# Altium footprint library Chip_Resistor_L.PcbLib: 13 footprints
Each footprint in its own frame and in the unit in brackets; x right, y up, seen from the top. Pads: shape width x height; smd on the part's side, far side on the other; paste and mask are expansions set on the pad; w line width, h text height; cw(c..) or ccw(c..) is an arc to the next point about the centre after c.
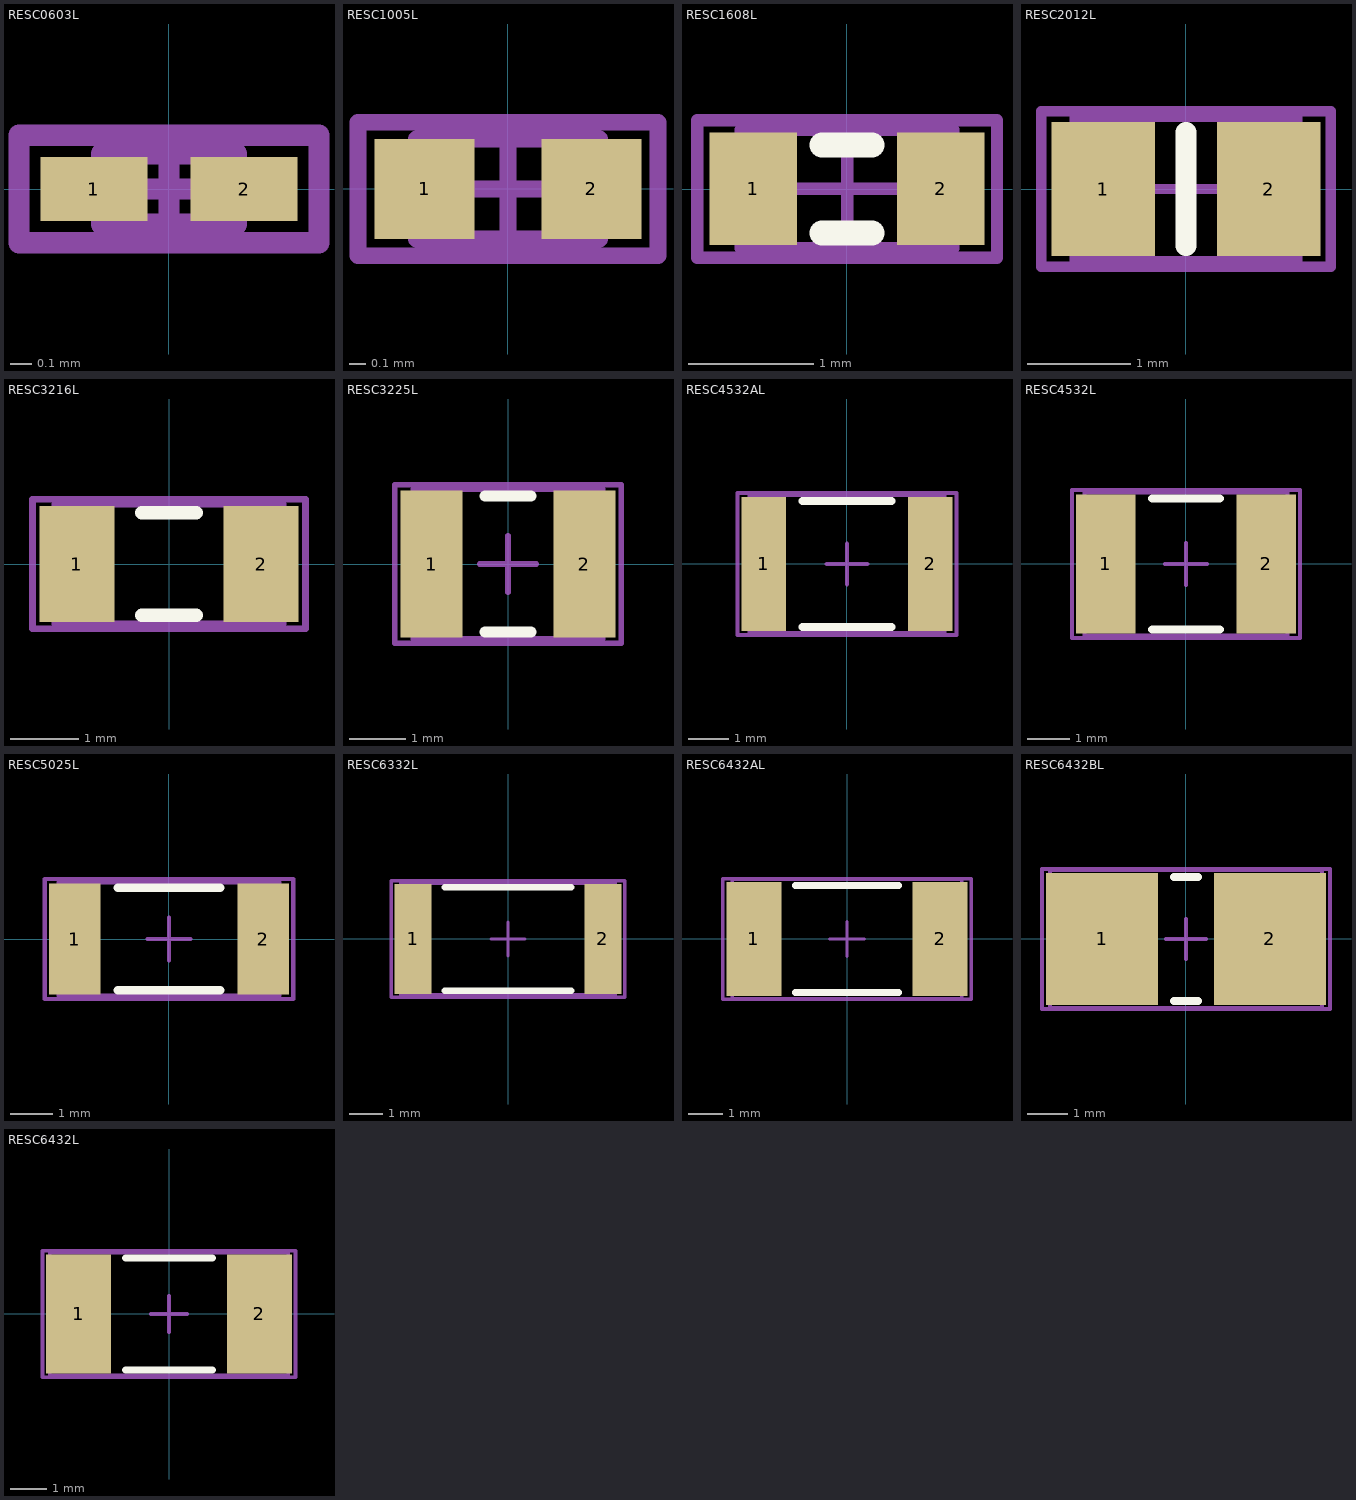
[diagram p0: the footprints below, top view; thin cyan lines are the x and y axes]

## RESC0603L [mm] "Chip Resistor, Body 0.6x0.3mm, IPC High Density"
height 0.3
pads (2):
  rect 0.5x0.3 smd: 1(-0.35,0) 2(0.35,0)
Mechanical 13:
  lines w0.1: -0.315,-0.165 -0.315,0.165 0.315,0.165 0.315,-0.165 -0.315,-0.165
Mechanical 15:
  lines w0.1: -0.165,0 0.165,0 ; 0,-0.165 0,0.165 ; -0.7,-0.25 -0.7,0.25 0.7,0.25 0.7,-0.25 -0.7,-0.25
3D body: height 0.3, standoff 0, extent -0.315,-0.165 0.315,0.165

## RESC1005L [mm] "Chip Resistor, Body 1.1x0.5mm, IPC High Density"
height 0.4
pads (2):
  rect 0.6x0.6 smd: 1(-0.5,0) 2(0.5,0)
Mechanical 13:
  lines w0.1: -0.55,-0.3 0.55,-0.3 0.55,0.3 -0.55,0.3 -0.55,-0.3
Mechanical 15:
  lines w0.1: -0.3,0 0.3,0 ; 0,-0.3 0,0.3 ; -0.9,-0.4 0.9,-0.4 0.9,0.4 -0.9,0.4 -0.9,-0.4
3D body: height 0.4, standoff 0, extent -0.55,-0.3 0.55,0.3

## RESC1608L [mm] "Chip Resistor, Body 1.6x0.8mm, IPC High Density"
height 0.6
pads (2):
  rect 0.7x0.9 smd: 1(-0.75,0) 2(0.75,0)
Top Overlay:
  lines w0.2: -0.2,-0.35 0.2,-0.35 ; -0.2,0.35 0.2,0.35
Mechanical 13:
  lines w0.1: -0.85,-0.475 0.85,-0.475 0.85,0.475 -0.85,0.475 -0.85,-0.475
Mechanical 15:
  lines w0.1: -0.475,0 0.475,0 ; 0,-0.475 0,0.475 ; -1.2,-0.55 1.2,-0.55 1.2,0.55 -1.2,0.55 -1.2,-0.55
3D body: height 0.6, standoff 0, extent -0.85,-0.475 0.85,0.475

## RESC2012L [mm] "Chip Resistor, Body 2.0x1.3mm, IPC High Density"
height 0.65
pads (2):
  rect 1x1.3 smd: 1(-0.8,0) 2(0.8,0)
Top Overlay:
  lines w0.2: 0,-0.55 0,0.55
Mechanical 13:
  lines w0.1: -1.075,-0.7 1.075,-0.7 1.075,0.7 -1.075,0.7 -1.075,-0.7
Mechanical 15:
  lines w0.1: -0.5,0 0.5,0 ; 0,-0.5 0,0.5 ; -1.4,-0.75 1.4,-0.75 1.4,0.75 -1.4,0.75 -1.4,-0.75
3D body: height 0.62, standoff 0.08, extent -1.05,-0.671 1.05,0.671

## RESC3216L [mm] "Chip Resistor, Body 3.2x1.6mm, IPC High Density"
height 0.71
pads (2):
  rect 1.1x1.7 smd: 1(-1.35,0) 2(1.35,0)
Top Overlay:
  lines w0.2: -0.4,-0.75 0.4,-0.75 ; -0.4,0.75 0.4,0.75
Mechanical 13:
  lines w0.1: -1.675,-0.875 1.675,-0.875 1.675,0.875 -1.675,0.875 -1.675,-0.875
Mechanical 15:
  lines w0.1: -2,-0.95 2,-0.95 2,0.95 -2,0.95 -2,-0.95
3D body: height 0.67, standoff 0.06, extent -1.55,-0.829 1.55,0.829

## RESC3225L [mm] "Chip Resistor, Body 3.2x2.5mm, IPC High Density"
height 0.71
pads (2):
  rect 1.1x2.6 smd: 1(-1.35,0) 2(1.35,0)
Top Overlay:
  lines w0.2: -0.4,-1.2 0.4,-1.2 ; -0.4,1.2 0.4,1.2
Mechanical 13:
  lines w0.1: -1.675,-1.32 1.675,-1.32 1.675,1.32 -1.675,1.32 -1.675,-1.32
Mechanical 15:
  lines w0.1: -0.5,0 0.5,0 ; 0,-0.5 0,0.5 ; -2,-1.4 2,-1.4 2,1.4 -2,1.4 -2,-1.4
3D body: height 0.71, standoff 0, extent -1.675,-1.32 1.675,1.32

## RESC4532AL [mm] "Chip Resistor, Body 4.5x3.2mm, IPC High Density"
height 0.7
pads (2):
  rect 1.1x3.3 smd: 1(-2.05,0) 2(2.05,0)
Top Overlay:
  lines w0.2: -1.1,-1.55 1.1,-1.55 ; -1.1,1.55 1.1,1.55
Mechanical 13:
  lines w0.1: -2.4,-1.7 2.4,-1.7 2.4,1.7 -2.4,1.7 -2.4,-1.7
Mechanical 15:
  lines w0.1: -0.5,0 0.5,0 ; 0,-0.5 0,0.5 ; -2.7,-1.75 2.7,-1.75 2.7,1.75 -2.7,1.75 -2.7,-1.75
3D body: height 0.7, standoff 0, extent -2.4,-1.7 2.4,1.7

## RESC4532L [mm] "Chip Resistor, Body 4.5x3.2mm, IPC High Density"
height 0.71
pads (2):
  rect 1.4x3.3 smd: 1(-1.9,0) 2(1.9,0)
Top Overlay:
  lines w0.2: -0.8,-1.55 0.8,-1.55 ; -0.8,1.55 0.8,1.55
Mechanical 13:
  lines w0.1: -2.4,-1.7 -2.4,1.7 2.4,1.7 2.4,-1.7 -2.4,-1.7
Mechanical 15:
  lines w0.1: -0.5,0 0.5,0 ; 0,-0.5 0,0.5 ; -2.7,-1.75 -2.7,1.75 2.7,1.75 2.7,-1.75 -2.7,-1.75
3D body: height 0.71, standoff 0, extent -2.4,-1.7 2.4,1.7

## RESC5025L [mm] "Chip Resistor, Body 5.0x2.5mm, IPC High Density"
height 0.71
pads (2):
  rect 1.2x2.6 smd: 1(-2.2,0) 2(2.2,0)
Top Overlay:
  lines w0.2: -1.2,-1.2 1.2,-1.2 ; -1.2,1.2 1.2,1.2
Mechanical 13:
  lines w0.1: -2.575,-1.325 2.575,-1.325 2.575,1.325 -2.575,1.325 -2.575,-1.325
Mechanical 15:
  lines w0.1: -0.5,0 0.5,0 ; 0,-0.5 0,0.5 ; -2.9,-1.4 2.9,-1.4 2.9,1.4 -2.9,1.4 -2.9,-1.4
3D body: height 0.71, standoff 0, extent -2.575,-1.325 2.575,1.325

## RESC6332L [mm] "Chip Resistor, Body 6.3x3.2mm, IPC High Density"
height 0.71
pads (2):
  rect 1.1x3.3 smd: 1(-2.85,0) 2(2.85,0)
Top Overlay:
  lines w0.2: -1.9,-1.55 1.9,-1.55 ; -1.9,1.55 1.9,1.55
Mechanical 13:
  lines w0.1: -3.225,-1.675 3.225,-1.675 3.225,1.675 -3.225,1.675 -3.225,-1.675
Mechanical 15:
  lines w0.1: -0.5,0 0.5,0 ; 0,-0.5 0,0.5 ; -3.5,-1.75 3.5,-1.75 3.5,1.75 -3.5,1.75 -3.5,-1.75
3D body: height 0.71, standoff 0, extent -3.225,-1.675 3.225,1.675

## RESC6432AL [mm] "Chip Resistor, Body 6.4x3.2mm, IPC High Density"
height 1.1
pads (2):
  rect 1.6x3.3 smd: 1(-2.7,0) 2(2.7,0)
Top Overlay:
  lines w0.2: -1.5,-1.55 1.5,-1.55 ; -1.5,1.55 1.5,1.55
Mechanical 13:
  lines w0.1: -3.325,-1.725 3.325,-1.725 3.325,1.725 -3.325,1.725 -3.325,-1.725
Mechanical 15:
  lines w0.1: -0.5,0 0.5,0 ; 0,-0.5 0,0.5 ; -3.6,-1.75 3.6,-1.75 3.6,1.75 -3.6,1.75 -3.6,-1.75
3D body: height 1.1, standoff 0, extent -3.325,-1.725 3.325,1.725

## RESC6432BL [mm] "Chip Resistor, Body 6.4x3.2mm, IPC High Density"
height 1.1
pads (2):
  rect 2.8x3.3 smd: 1(-2.1,0) 2(2.1,0)
Top Overlay:
  lines w0.2: -0.3,-1.55 0.3,-1.55 ; -0.3,1.55 0.3,1.55
Mechanical 13:
  lines w0.1: -3.4,-1.725 3.4,-1.725 3.4,1.725 -3.4,1.725 -3.4,-1.725
Mechanical 15:
  lines w0.1: -0.5,0 0.5,0 ; 0,-0.5 0,0.5 ; -3.6,-1.75 3.6,-1.75 3.6,1.75 -3.6,1.75 -3.6,-1.75
3D body: height 1.1, standoff 0, extent -3.4,-1.725 3.4,1.725

## RESC6432L [mm] "Chip Resistor, Body 6.4x3.2mm, IPC High Density"
height 1.2
pads (2):
  rect 1.8x3.3 smd: 1(-2.5,0) 2(2.5,0)
Top Overlay:
  lines w0.2: -1.2,-1.55 1.2,-1.55 ; -1.2,1.55 1.2,1.55
Mechanical 13:
  lines w0.1: -3.3,-1.7 -3.3,1.7 3.3,1.7 3.3,-1.7 -3.3,-1.7
Mechanical 15:
  lines w0.1: -0.5,0 0.5,0 ; 0,-0.5 0,0.5 ; -3.5,-1.75 -3.5,1.75 3.5,1.75 3.5,-1.75 -3.5,-1.75
3D body: height 1.2, standoff 0, extent -3.3,-1.7 3.3,1.7